# Altium integrated library TI_Logic_Little_Logic.IntLib: 1164 symbols (part 26 of 35)
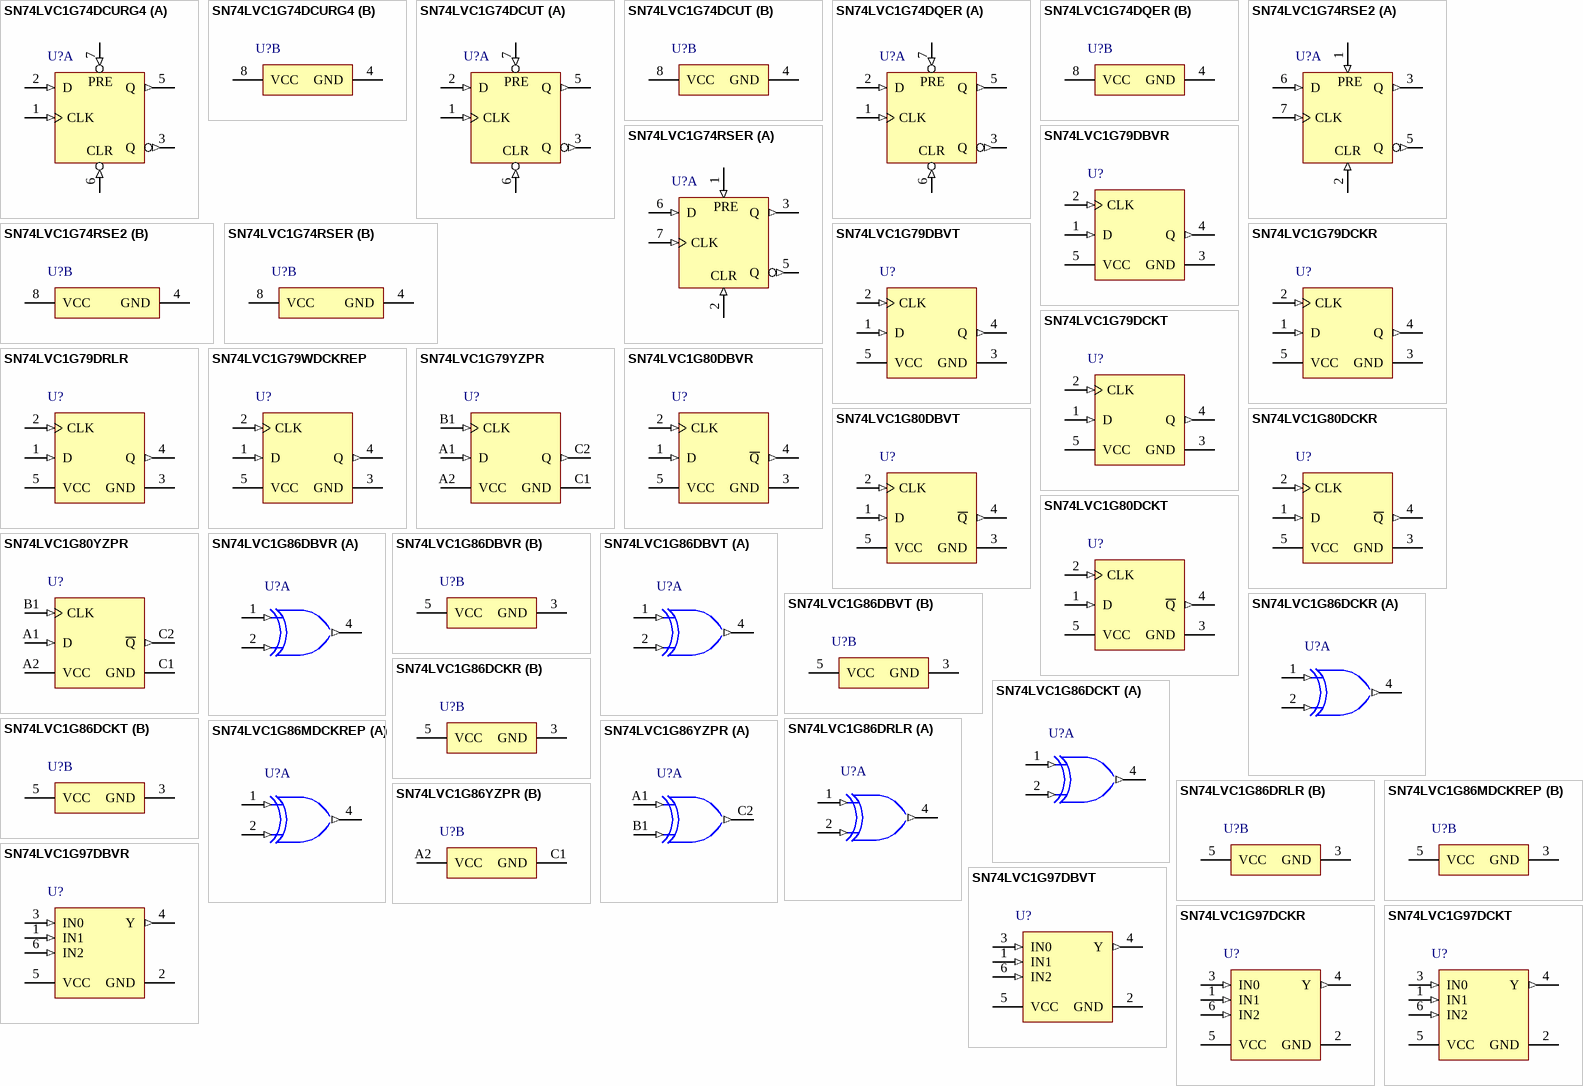
[diagram p85: symbols SN74LVC1G74DCURG4 to SN74LVC1G97DCKT]

## SN74LVC1G79WDCKREP
designator U?
Enhanced Product Single Positive-Edge-Triggered D-Type Flip-Flop, DCK0005A, LARGE T&R; Generic Part Number: SN74LVC1G79-EP; Manufacturer: Texas Instruments; PartNumber: SN74LVC1G79WDCKREP; VCC(Min)(V): 1.65; VCC(Max)(V): 5.5; Output Type: CMOS; ICC @ Nom Voltage(Max)(mA): 0.01; Input Type: CMOS/TTL; Bits(#): 1; F @ Nom Voltage(Max)(Mhz): 150; Rating: HiRel Enhanced Product; Technology Family: LVC; Voltage(Nom)(V): 1.8,2.5,3.3,5; Schmitt Trigger: No; Output Drive (IOL/IOH)(Max)(mA): 32/-32; tpd @ Nom Voltage(Max)(ns): 10.1,7,5,4.5; Logic: True; DatasheetVersion: SCES646A; PackageReference: DCK0005A; Supplier 1: Mouser; Supplier Part Number 1: 595-SN74LVC79WDCKREP; Supplier 2: Digi-Key; Supplier Part Number 2: 296-19506-2-ND; Supplier 3: Digi-Key; Supplier Part Number 3: 296-19506-1-ND; Supplier 4: Digi-Key; Supplier Part Number 4: 296-19506-6-ND; Operating Temperature Range(C): -55 to 115; 3-State Output: No; Sub-Family: D-Type Flip-Flop; ComponentLink1Description: Manufacturer URL; ComponentLink1URL: http://www.ti.com/; ComponentLink2Description: Datasheet; ComponentLink2URL: http://www.ti.com/lit/ds/symlink/sn74lvc1g79-ep.pdf
footprint DCK0005A_N (SOT23, 5-Leads, Body 2.15x1.4mm, Pitch 0.65mm, IPC Medium Density)
footprint DCK0005A_M (SOT23, 5-Leads, Body 2.15x1.4mm, Pitch 0.65mm, IPC Low Density)
footprint DCK0005A_L (SOT23, 5-Leads, Body 2.15x1.4mm, Pitch 0.65mm, IPC High Density)
pins: 1 D (in) "Data Input", 2 CLK (in) "Clock Input", 3 GND (power) "Ground", 4 Q (out) "Q Output", 5 VCC (power) "Power"

## SN74LVC1G79YZPR
designator U?
Single Positive-Edge-Triggered D-Type Flip-Flop, YZP0005AEAE, LARGE T&R; Generic Part Number: SN74LVC1G79; Manufacturer: Texas Instruments; PartNumber: SN74LVC1G79YZPR; VCC(Min)(V): 1.65; VCC(Max)(V): 5.5; Output Type: CMOS; ICC @ Nom Voltage(Max)(mA): 0.01; Input Type: CMOS/TTL; Bits(#): 1; F @ Nom Voltage(Max)(Mhz): 150; Rating: Catalog; Technology Family: LVC; Voltage(Nom)(V): 1.8,2.5,3.3,5; Schmitt Trigger: No; Output Drive (IOL/IOH)(Max)(mA): 32/-32; tpd @ Nom Voltage(Max)(ns): 12,8.5,6,5; Logic: True; DatasheetVersion: SCES220T; PackageReference: YZP0005AEAE; Supplier 1: Mouser; Supplier Part Number 1: 595-SN74LVC1G79YZPR; Supplier 2: Digi-Key; Supplier Part Number 2: 296-18788-2-ND; Supplier 3: Digi-Key; Supplier Part Number 3: 296-18788-1-ND; Supplier 4: Digi-Key; Supplier Part Number 4: 296-18788-6-ND; Operating Temperature Range(C): -40 to 125,-40 to 85; 3-State Output: No; Sub-Family: D-Type Flip-Flop; ComponentLink1Description: Manufacturer URL; ComponentLink1URL: http://www.ti.com/; ComponentLink2Description: Datasheet; ComponentLink2URL: http://www.ti.com/lit/ds/symlink/sn74lvc1g79.pdf
footprint YZP0005AEAE (BGA, 5-Balls, Body 1.39x0.89mm, Pitch 0.5mm)
pins: A1 D (in) "Data Input", A2 VCC (power) "Power", B1 CLK (in) "Clock Input", C1 GND (power) "Ground", C2 Q (out) "Q Output"

## SN74LVC1G80DBVR
designator U?
Single Positive-Edge-Triggered D-Type Flip-Flop, DBV0005A, LARGE T&R; Generic Part Number: SN74LVC1G80; Manufacturer: Texas Instruments; PartNumber: SN74LVC1G80DBVR; VCC(Min)(V): 1.65; VCC(Max)(V): 5.5; Output Type: CMOS; ICC @ Nom Voltage(Max)(mA): 0.01; Input Type: CMOS/TTL; Bits(#): 1; F @ Nom Voltage(Max)(Mhz): 150; Rating: Catalog; Technology Family: LVC; Voltage(Nom)(V): 1.8,2.5,3.3,5; Schmitt Trigger: No; Output Drive (IOL/IOH)(Max)(mA): 32/-32; tpd @ Nom Voltage(Max)(ns): 9.1,6,4.2,3.8; Logic: True; DatasheetVersion: SCES221R; PackageReference: DBV0005A; Supplier 1: Mouser; Supplier Part Number 1: 595-SN74LVC1G80DBVR; Supplier 2: Digi-Key; Supplier Part Number 2: 296-9851-2-ND; Supplier 3: Digi-Key; Supplier Part Number 3: 296-9851-1-ND; Supplier 4: Digi-Key; Supplier Part Number 4: 296-9851-6-ND; Operating Temperature Range(C): -40 to 125,-40 to 85; 3-State Output: No; Sub-Family: D-Type Flip-Flop; ComponentLink1Description: Manufacturer URL; ComponentLink1URL: http://www.ti.com/; ComponentLink2Description: Datasheet; ComponentLink2URL: http://www.ti.com/lit/ds/symlink/sn74lvc1g80.pdf
footprint DBV0005A_N (SOT23, 5-Leads, Body 3.05x1.75mm, Pitch 0.95mm, IPC Medium Density)
footprint DBV0005A_M (SOT23, 5-Leads, Body 3.05x1.75mm, Pitch 0.95mm, IPC Low Density)
footprint DBV0005A_L (SOT23, 5-Leads, Body 3.05x1.75mm, Pitch 0.95mm, IPC High Density)
pins: 1 D (in), 2 CLK (in), 3 GND (power), 4 ~{Q} (out), 5 VCC (power)

## SN74LVC1G80DBVT
designator U?
Single Positive-Edge-Triggered D-Type Flip-Flop, DBV0005A, SMALL T&R; Generic Part Number: SN74LVC1G80; Manufacturer: Texas Instruments; PartNumber: SN74LVC1G80DBVT; VCC(Min)(V): 1.65; VCC(Max)(V): 5.5; Output Type: CMOS; ICC @ Nom Voltage(Max)(mA): 0.01; Input Type: CMOS/TTL; Bits(#): 1; F @ Nom Voltage(Max)(Mhz): 150; Rating: Catalog; Technology Family: LVC; Voltage(Nom)(V): 1.8,2.5,3.3,5; Schmitt Trigger: No; Output Drive (IOL/IOH)(Max)(mA): 32/-32; tpd @ Nom Voltage(Max)(ns): 9.1,6,4.2,3.8; Logic: True; DatasheetVersion: SCES221R; PackageReference: DBV0005A; Supplier 1: Mouser; Supplier Part Number 1: 595-SN74LVC1G80DBVT; Supplier 2: Digi-Key; Supplier Part Number 2: 296-32308-2-ND; Supplier 3: Digi-Key; Supplier Part Number 3: 296-32308-1-ND; Supplier 4: Digi-Key; Supplier Part Number 4: 296-32308-6-ND; Operating Temperature Range(C): -40 to 125,-40 to 85; 3-State Output: No; Sub-Family: D-Type Flip-Flop; ComponentLink1Description: Manufacturer URL; ComponentLink1URL: http://www.ti.com/; ComponentLink2Description: Datasheet; ComponentLink2URL: http://www.ti.com/lit/ds/symlink/sn74lvc1g80.pdf
footprint DBV0005A_N (SOT23, 5-Leads, Body 3.05x1.75mm, Pitch 0.95mm, IPC Medium Density)
footprint DBV0005A_M (SOT23, 5-Leads, Body 3.05x1.75mm, Pitch 0.95mm, IPC Low Density)
footprint DBV0005A_L (SOT23, 5-Leads, Body 3.05x1.75mm, Pitch 0.95mm, IPC High Density)
pins: 1 D (in), 2 CLK (in), 3 GND (power), 4 ~{Q} (out), 5 VCC (power)

## SN74LVC1G80DCKR
designator U?
Single Positive-Edge-Triggered D-Type Flip-Flop, DCK0005A, LARGE T&R; Generic Part Number: SN74LVC1G80; Manufacturer: Texas Instruments; PartNumber: SN74LVC1G80DCKR; VCC(Min)(V): 1.65; VCC(Max)(V): 5.5; Output Type: CMOS; ICC @ Nom Voltage(Max)(mA): 0.01; Input Type: CMOS/TTL; Bits(#): 1; F @ Nom Voltage(Max)(Mhz): 150; Rating: Catalog; Technology Family: LVC; Voltage(Nom)(V): 1.8,2.5,3.3,5; Schmitt Trigger: No; Output Drive (IOL/IOH)(Max)(mA): 32/-32; tpd @ Nom Voltage(Max)(ns): 9.1,6,4.2,3.8; Logic: True; DatasheetVersion: SCES221R; PackageReference: DCK0005A; Supplier 1: Mouser; Supplier Part Number 1: 595-SN74LVC1G80DCKR; Supplier 2: Digi-Key; Supplier Part Number 2: 296-9852-2-ND; Supplier 3: Digi-Key; Supplier Part Number 3: 296-9852-1-ND; Supplier 4: Digi-Key; Supplier Part Number 4: 296-9852-6-ND; Operating Temperature Range(C): -40 to 125,-40 to 85; 3-State Output: No; Sub-Family: D-Type Flip-Flop; ComponentLink1Description: Manufacturer URL; ComponentLink1URL: http://www.ti.com/; ComponentLink2Description: Datasheet; ComponentLink2URL: http://www.ti.com/lit/ds/symlink/sn74lvc1g80.pdf
footprint DCK0005A_N (SOT23, 5-Leads, Body 2.15x1.4mm, Pitch 0.65mm, IPC Medium Density)
footprint DCK0005A_M (SOT23, 5-Leads, Body 2.15x1.4mm, Pitch 0.65mm, IPC Low Density)
footprint DCK0005A_L (SOT23, 5-Leads, Body 2.15x1.4mm, Pitch 0.65mm, IPC High Density)
pins: 1 D (in), 2 CLK (in), 3 GND (power), 4 ~{Q} (out), 5 VCC (power)

## SN74LVC1G80DCKT
designator U?
Single Positive-Edge-Triggered D-Type Flip-Flop, DCK0005A, SMALL T&R; Generic Part Number: SN74LVC1G80; Manufacturer: Texas Instruments; PartNumber: SN74LVC1G80DCKT; VCC(Min)(V): 1.65; VCC(Max)(V): 5.5; Output Type: CMOS; ICC @ Nom Voltage(Max)(mA): 0.01; Input Type: CMOS/TTL; Bits(#): 1; F @ Nom Voltage(Max)(Mhz): 150; Rating: Catalog; Technology Family: LVC; Voltage(Nom)(V): 1.8,2.5,3.3,5; Schmitt Trigger: No; Output Drive (IOL/IOH)(Max)(mA): 32/-32; tpd @ Nom Voltage(Max)(ns): 9.1,6,4.2,3.8; Logic: True; DatasheetVersion: SCES221R; PackageReference: DCK0005A; Supplier 1: Mouser; Supplier Part Number 1: 595-SN74LVC1G80DCKT; Supplier 2: Digi-Key; Supplier Part Number 2: 296-41824-2-ND; Supplier 3: Digi-Key; Supplier Part Number 3: 296-41824-1-ND; Supplier 4: Digi-Key; Supplier Part Number 4: 296-41824-6-ND; Operating Temperature Range(C): -40 to 125,-40 to 85; 3-State Output: No; Sub-Family: D-Type Flip-Flop; ComponentLink1Description: Manufacturer URL; ComponentLink1URL: http://www.ti.com/; ComponentLink2Description: Datasheet; ComponentLink2URL: http://www.ti.com/lit/ds/symlink/sn74lvc1g80.pdf
footprint DCK0005A_N (SOT23, 5-Leads, Body 2.15x1.4mm, Pitch 0.65mm, IPC Medium Density)
footprint DCK0005A_M (SOT23, 5-Leads, Body 2.15x1.4mm, Pitch 0.65mm, IPC Low Density)
footprint DCK0005A_L (SOT23, 5-Leads, Body 2.15x1.4mm, Pitch 0.65mm, IPC High Density)
pins: 1 D (in), 2 CLK (in), 3 GND (power), 4 ~{Q} (out), 5 VCC (power)

## SN74LVC1G80YZPR
designator U?
Single Positive-Edge-Triggered D-Type Flip-Flop, YZP0005ADAD, LARGE T&R; Generic Part Number: SN74LVC1G80; Manufacturer: Texas Instruments; PartNumber: SN74LVC1G80YZPR; VCC(Min)(V): 1.65; VCC(Max)(V): 5.5; Output Type: CMOS; ICC @ Nom Voltage(Max)(mA): 0.01; Input Type: CMOS/TTL; Bits(#): 1; F @ Nom Voltage(Max)(Mhz): 150; Rating: Catalog; Technology Family: LVC; Voltage(Nom)(V): 1.8,2.5,3.3,5; Schmitt Trigger: No; Output Drive (IOL/IOH)(Max)(mA): 32/-32; tpd @ Nom Voltage(Max)(ns): 9.1,6,4.2,3.8; Logic: True; DatasheetVersion: SCES221R; PackageReference: YZP0005ADAD; Supplier 1: Mouser; Supplier Part Number 1: 595-SN74LVC1G80YZPR; Supplier 2: Digi-Key; Supplier Part Number 2: 296-18790-2-ND; Supplier 3: Digi-Key; Supplier Part Number 3: 296-18790-1-ND; Supplier 4: Digi-Key; Supplier Part Number 4: 296-18790-6-ND; Operating Temperature Range(C): -40 to 125,-40 to 85; 3-State Output: No; Sub-Family: D-Type Flip-Flop; ComponentLink1Description: Manufacturer URL; ComponentLink1URL: http://www.ti.com/; ComponentLink2Description: Datasheet; ComponentLink2URL: http://www.ti.com/lit/ds/symlink/sn74lvc1g80.pdf
footprint YZP0005ADAD (BGA, 5-Balls, Body 1.39x0.89mm, Pitch 0.5mm)
pins: A1 D (in), A2 VCC (power), B1 CLK (in), C1 GND (power), C2 ~{Q} (out)

## SN74LVC1G86DBVR
designator U?
Single 2-Input Exclusive-OR Gate, DBV0005A, LARGE T&R; Generic Part Number: SN74LVC1G86; Manufacturer: Texas Instruments; PartNumber: SN74LVC1G86DBVR; VCC(Min)(V): 1.65; VCC(Max)(V): 5.5; Output Type: CMOS; ICC @ Nom Voltage(Max)(mA): 0.01; Input Type: CMOS/TTL; Bits(#): 1; F @ Nom Voltage(Max)(Mhz): 150; Rating: Catalog; Technology Family: LVC; Voltage(Nom)(V): 1.8,2.5,3.3,5; Schmitt Trigger: No; Output Drive (IOL/IOH)(Max)(mA): 32/-32; tpd @ Nom Voltage(Max)(ns): 9.9,5.5,5,4; Logic: True; Gate Type: XOR; Sub-Family: XOR Gate; DatasheetVersion: SCES222O; PackageReference: DBV0005A; Supplier 1: Mouser; Supplier Part Number 1: 595-SN74LVC1G86DBVR; Supplier 2: Digi-Key; Supplier Part Number 2: 296-9853-2-ND; Supplier 3: Digi-Key; Supplier Part Number 3: 296-9853-1-ND; Supplier 4: Digi-Key; Supplier Part Number 4: 296-9853-6-ND; Operating Temperature Range(C): -40 to 125,-40 to 85; 3-State Output: No; ComponentLink1Description: Manufacturer URL; ComponentLink1URL: http://www.ti.com/; ComponentLink2Description: Datasheet; ComponentLink2URL: http://www.ti.com/lit/ds/symlink/sn74lvc1g86.pdf
footprint DBV0005A_N (SOT23, 5-Leads, Body 3.05x1.75mm, Pitch 0.95mm, IPC Medium Density)
footprint DBV0005A_M (SOT23, 5-Leads, Body 3.05x1.75mm, Pitch 0.95mm, IPC Low Density)
footprint DBV0005A_L (SOT23, 5-Leads, Body 3.05x1.75mm, Pitch 0.95mm, IPC High Density)
part A pins: 1 A (in) "Input A", 2 B (in) "Input B", 4 Y (out) "Output Y"
part B pins: 3 GND (power) "Ground Pin", 5 VCC (power) "Power Pin"

## SN74LVC1G86DBVT
designator U?
Single 2-Input Exclusive-OR Gate, DBV0005A, SMALL T&R; Generic Part Number: SN74LVC1G86; Manufacturer: Texas Instruments; PartNumber: SN74LVC1G86DBVT; VCC(Min)(V): 1.65; VCC(Max)(V): 5.5; Output Type: CMOS; ICC @ Nom Voltage(Max)(mA): 0.01; Input Type: CMOS/TTL; Bits(#): 1; F @ Nom Voltage(Max)(Mhz): 150; Rating: Catalog; Technology Family: LVC; Voltage(Nom)(V): 1.8,2.5,3.3,5; Schmitt Trigger: No; Output Drive (IOL/IOH)(Max)(mA): 32/-32; tpd @ Nom Voltage(Max)(ns): 9.9,5.5,5,4; Logic: True; Gate Type: XOR; Sub-Family: XOR Gate; DatasheetVersion: SCES222O; PackageReference: DBV0005A; Supplier 1: Mouser; Supplier Part Number 1: 595-SN74LVC1G86DBVT; Supplier 2: Digi-Key; Supplier Part Number 2: 296-32309-2-ND; Supplier 3: Digi-Key; Supplier Part Number 3: 296-32309-1-ND; Supplier 4: Digi-Key; Supplier Part Number 4: 296-32309-6-ND; Operating Temperature Range(C): -40 to 125,-40 to 85; 3-State Output: No; ComponentLink1Description: Manufacturer URL; ComponentLink1URL: http://www.ti.com/; ComponentLink2Description: Datasheet; ComponentLink2URL: http://www.ti.com/lit/ds/symlink/sn74lvc1g86.pdf
footprint DBV0005A_N (SOT23, 5-Leads, Body 3.05x1.75mm, Pitch 0.95mm, IPC Medium Density)
footprint DBV0005A_M (SOT23, 5-Leads, Body 3.05x1.75mm, Pitch 0.95mm, IPC Low Density)
footprint DBV0005A_L (SOT23, 5-Leads, Body 3.05x1.75mm, Pitch 0.95mm, IPC High Density)
part A pins: 1 A (in) "Input A", 2 B (in) "Input B", 4 Y (out) "Output Y"
part B pins: 3 GND (power) "Ground Pin", 5 VCC (power) "Power Pin"

## SN74LVC1G86DCKR
designator U?
Single 2-Input Exclusive-OR Gate, DCK0005A, LARGE T&R; Generic Part Number: SN74LVC1G86; Manufacturer: Texas Instruments; PartNumber: SN74LVC1G86DCKR; VCC(Min)(V): 1.65; VCC(Max)(V): 5.5; Output Type: CMOS; ICC @ Nom Voltage(Max)(mA): 0.01; Input Type: CMOS/TTL; Bits(#): 1; F @ Nom Voltage(Max)(Mhz): 150; Rating: Catalog; Technology Family: LVC; Voltage(Nom)(V): 1.8,2.5,3.3,5; Schmitt Trigger: No; Output Drive (IOL/IOH)(Max)(mA): 32/-32; tpd @ Nom Voltage(Max)(ns): 9.9,5.5,5,4; Logic: True; Gate Type: XOR; Sub-Family: XOR Gate; DatasheetVersion: SCES222O; PackageReference: DCK0005A; Supplier 1: Mouser; Supplier Part Number 1: 595-SN74LVC1G86DCKR; Supplier 2: Digi-Key; Supplier Part Number 2: 296-9854-2-ND; Supplier 3: Digi-Key; Supplier Part Number 3: 296-9854-1-ND; Supplier 4: Digi-Key; Supplier Part Number 4: 296-9854-6-ND; Operating Temperature Range(C): -40 to 125,-40 to 85; 3-State Output: No; ComponentLink1Description: Manufacturer URL; ComponentLink1URL: http://www.ti.com/; ComponentLink2Description: Datasheet; ComponentLink2URL: http://www.ti.com/lit/ds/symlink/sn74lvc1g86.pdf
footprint DCK0005A_N (SOT23, 5-Leads, Body 2.15x1.4mm, Pitch 0.65mm, IPC Medium Density)
footprint DCK0005A_M (SOT23, 5-Leads, Body 2.15x1.4mm, Pitch 0.65mm, IPC Low Density)
footprint DCK0005A_L (SOT23, 5-Leads, Body 2.15x1.4mm, Pitch 0.65mm, IPC High Density)
part A pins: 1 A (in) "Input A", 2 B (in) "Input B", 4 Y (out) "Output Y"
part B pins: 3 GND (power) "Ground Pin", 5 VCC (power) "Power Pin"

## SN74LVC1G86DCKT
designator U?
Single 2-Input Exclusive-OR Gate, DCK0005A, SMALL T&R; Generic Part Number: SN74LVC1G86; Manufacturer: Texas Instruments; PartNumber: SN74LVC1G86DCKT; VCC(Min)(V): 1.65; VCC(Max)(V): 5.5; Output Type: CMOS; ICC @ Nom Voltage(Max)(mA): 0.01; Input Type: CMOS/TTL; Bits(#): 1; F @ Nom Voltage(Max)(Mhz): 150; Rating: Catalog; Technology Family: LVC; Voltage(Nom)(V): 1.8,2.5,3.3,5; Schmitt Trigger: No; Output Drive (IOL/IOH)(Max)(mA): 32/-32; tpd @ Nom Voltage(Max)(ns): 9.9,5.5,5,4; Logic: True; Gate Type: XOR; Sub-Family: XOR Gate; DatasheetVersion: SCES222O; PackageReference: DCK0005A; Supplier 1: Mouser; Supplier Part Number 1: 595-SN74LVC1G86DCKT; Supplier 2: Digi-Key; Supplier Part Number 2: 296-32310-2-ND; Supplier 3: Digi-Key; Supplier Part Number 3: 296-32310-1-ND; Supplier 4: Digi-Key; Supplier Part Number 4: 296-32310-6-ND; Operating Temperature Range(C): -40 to 125,-40 to 85; 3-State Output: No; ComponentLink1Description: Manufacturer URL; ComponentLink1URL: http://www.ti.com/; ComponentLink2Description: Datasheet; ComponentLink2URL: http://www.ti.com/lit/ds/symlink/sn74lvc1g86.pdf
footprint DCK0005A_N (SOT23, 5-Leads, Body 2.15x1.4mm, Pitch 0.65mm, IPC Medium Density)
footprint DCK0005A_M (SOT23, 5-Leads, Body 2.15x1.4mm, Pitch 0.65mm, IPC Low Density)
footprint DCK0005A_L (SOT23, 5-Leads, Body 2.15x1.4mm, Pitch 0.65mm, IPC High Density)
part A pins: 1 A (in) "Input A", 2 B (in) "Input B", 4 Y (out) "Output Y"
part B pins: 3 GND (power) "Ground Pin", 5 VCC (power) "Power Pin"

## SN74LVC1G86DRLR
designator U?
Single 2-Input Exclusive-OR Gate, DRL0005A, LARGE T&R; Generic Part Number: SN74LVC1G86; Manufacturer: Texas Instruments; PartNumber: SN74LVC1G86DRLR; VCC(Min)(V): 1.65; VCC(Max)(V): 5.5; Output Type: CMOS; ICC @ Nom Voltage(Max)(mA): 0.01; Input Type: CMOS/TTL; Bits(#): 1; F @ Nom Voltage(Max)(Mhz): 150; Rating: Catalog; Technology Family: LVC; Voltage(Nom)(V): 1.8,2.5,3.3,5; Schmitt Trigger: No; Output Drive (IOL/IOH)(Max)(mA): 32/-32; tpd @ Nom Voltage(Max)(ns): 9.9,5.5,5,4; Logic: True; Gate Type: XOR; Sub-Family: XOR Gate; DatasheetVersion: SCES222O; PackageReference: DRL0005A; Supplier 1: Mouser; Supplier Part Number 1: 595-SN74LVC1G86DRLR; Supplier 2: Digi-Key; Supplier Part Number 2: 296-18613-2-ND; Supplier 3: Digi-Key; Supplier Part Number 3: 296-18613-1-ND; Supplier 4: Digi-Key; Supplier Part Number 4: 296-18613-6-ND; Operating Temperature Range(C): -40 to 125,-40 to 85; 3-State Output: No; ComponentLink1Description: Manufacturer URL; ComponentLink1URL: http://www.ti.com/; ComponentLink2Description: Datasheet; ComponentLink2URL: http://www.ti.com/lit/ds/symlink/sn74lvc1g86.pdf
footprint DRL0005A_N (SOT23, 5-Leads, Body 1.7x1.3mm, Pitch 0.5mm, IPC Medium Density)
footprint DRL0005A_M (SOT23, 5-Leads, Body 1.7x1.3mm, Pitch 0.5mm, IPC Low Density)
footprint DRL0005A_L (SOT23, 5-Leads, Body 1.7x1.3mm, Pitch 0.5mm, IPC High Density)
part A pins: 1 A (in) "Input A", 2 B (in) "Input B", 4 Y (out) "Output Y"
part B pins: 3 GND (power) "Ground Pin", 5 VCC (power) "Power Pin"

## SN74LVC1G86MDCKREP
designator U?
Enhanced Product Single 2-Input Exclusive-Or Gate, DCK0005A, LARGE T&R; Generic Part Number: SN74LVC1G86-EP; Manufacturer: Texas Instruments; PartNumber: SN74LVC1G86MDCKREP; VCC(Min)(V): 1.65; VCC(Max)(V): 5.5; Output Type: CMOS; ICC @ Nom Voltage(Max)(mA): 0.015; Input Type: CMOS/TTL; Bits(#): 1; F @ Nom Voltage(Max)(Mhz): 150; Rating: HiRel Enhanced Product; Technology Family: LVC; Voltage(Nom)(V): 1.8,2.5,3.3,5; Schmitt Trigger: No; Output Drive (IOL/IOH)(Max)(mA): 32/-32; tpd @ Nom Voltage(Max)(ns): 6.7,5.7; Logic: True; Gate Type: XOR; Sub-Family: XOR Gate; DatasheetVersion: SCES679; PackageReference: DCK0005A; Supplier 1: Mouser; Supplier Part Number 1: 595-SN74LVC86MDCKREP; Supplier 2: Digi-Key; Supplier Part Number 2: 296-22351-2-ND; Supplier 3: Digi-Key; Supplier Part Number 3: 296-22351-1-ND; Supplier 4: Digi-Key; Supplier Part Number 4: 296-22351-6-ND; Operating Temperature Range(C): -55 to 125; 3-State Output: No; ComponentLink1Description: Manufacturer URL; ComponentLink1URL: http://www.ti.com/; ComponentLink2Description: Datasheet; ComponentLink2URL: http://www.ti.com/lit/ds/symlink/sn74lvc1g86-ep.pdf
footprint DCK0005A_N (SOT23, 5-Leads, Body 2.15x1.4mm, Pitch 0.65mm, IPC Medium Density)
footprint DCK0005A_M (SOT23, 5-Leads, Body 2.15x1.4mm, Pitch 0.65mm, IPC Low Density)
footprint DCK0005A_L (SOT23, 5-Leads, Body 2.15x1.4mm, Pitch 0.65mm, IPC High Density)
part A pins: 1 A (in) "Input A", 2 B (in) "Input B", 4 Y (out) "Output Y"
part B pins: 3 GND (power) "Ground Pin", 5 VCC (power) "Power Pin"

## SN74LVC1G86YZPR
designator U?
Single 2-Input Exclusive-OR Gate, YZP0005AEAE, LARGE T&R; Generic Part Number: SN74LVC1G86; Manufacturer: Texas Instruments; PartNumber: SN74LVC1G86YZPR; VCC(Min)(V): 1.65; VCC(Max)(V): 5.5; Output Type: CMOS; ICC @ Nom Voltage(Max)(mA): 0.01; Input Type: CMOS/TTL; Bits(#): 1; F @ Nom Voltage(Max)(Mhz): 150; Rating: Catalog; Technology Family: LVC; Voltage(Nom)(V): 1.8,2.5,3.3,5; Schmitt Trigger: No; Output Drive (IOL/IOH)(Max)(mA): 32/-32; tpd @ Nom Voltage(Max)(ns): 9.9,5.5,5,4; Logic: True; Gate Type: XOR; Sub-Family: XOR Gate; DatasheetVersion: SCES222O; PackageReference: YZP0005AEAE; Supplier 1: Mouser; Supplier Part Number 1: 595-SN74LVC1G86YZPR; Supplier 2: Digi-Key; Supplier Part Number 2: 296-18792-2-ND; Supplier 3: Digi-Key; Supplier Part Number 3: 296-18792-1-ND; Supplier 4: Digi-Key; Supplier Part Number 4: 296-18792-6-ND; Operating Temperature Range(C): -40 to 125,-40 to 85; 3-State Output: No; ComponentLink1Description: Manufacturer URL; ComponentLink1URL: http://www.ti.com/; ComponentLink2Description: Datasheet; ComponentLink2URL: http://www.ti.com/lit/ds/symlink/sn74lvc1g86.pdf
footprint YZP0005AEAE (BGA, 5-Balls, Body 1.39x0.89mm, Pitch 0.5mm)
part A pins: A1 A (in), B1 B (in), C2 Y (out)
part B pins: A2 VCC (power), C1 GND (power)

## SN74LVC1G97DBVR
designator U?
Configurable Multiple-Function Gate, DBV0006A, LARGE T&R; Generic Part Number: SN74LVC1G97; Manufacturer: Texas Instruments; PartNumber: SN74LVC1G97DBVR; VCC(Min)(V): 1.65; VCC(Max)(V): 5.5; Output Type: CMOS; ICC @ Nom Voltage(Max)(mA): 0.01; Input Type: CMOS/TTL; Bits(#): 1; F @ Nom Voltage(Max)(Mhz): 150; Rating: Catalog; Technology Family: LVC; Voltage(Nom)(V): 1.8,2.5,3.3,5; Schmitt Trigger: No; Output Drive (IOL/IOH)(Max)(mA): 32/-32; tpd @ Nom Voltage(Max)(ns): 14.4,8.3,6.3,5.1; Logic: True; Sub-Family: Configurable Logic; DatasheetVersion: SCES416L; PackageReference: DBV0006A; Supplier 1: Mouser; Supplier Part Number 1: 595-SN74LVC1G97DBVR; Supplier 2: Digi-Key; Supplier Part Number 2: 296-15581-2-ND; Supplier 3: Digi-Key; Supplier Part Number 3: 296-15581-1-ND; Supplier 4: Digi-Key; Supplier Part Number 4: 296-15581-6-ND; Operating Temperature Range(C): -40 to 125,-40 to 85; Gate Type: Configurable; 3-State Output: No; ComponentLink1Description: Manufacturer URL; ComponentLink1URL: http://www.ti.com/; ComponentLink2Description: Datasheet; ComponentLink2URL: http://www.ti.com/lit/ds/symlink/sn74lvc1g97.pdf
footprint DBV0006A_N (SOT23, 6-Leads, Body 3.05x1.75mm, Pitch 0.95mm, IPC Medium Density)
footprint DBV0006A_M (SOT23, 6-Leads, Body 3.05x1.75mm, Pitch 0.95mm, IPC Low Density)
footprint DBV0006A_L (SOT23, 6-Leads, Body 3.05x1.75mm, Pitch 0.95mm, IPC High Density)
pins: 1 IN1 (in), 2 GND (power), 3 IN0 (in), 4 Y (out), 5 VCC (power), 6 IN2 (in)

## SN74LVC1G97DBVT
designator U?
Configurable Multiple-Function Gate, DBV0006A, SMALL T&R; Generic Part Number: SN74LVC1G97; Manufacturer: Texas Instruments; PartNumber: SN74LVC1G97DBVT; VCC(Min)(V): 1.65; VCC(Max)(V): 5.5; Output Type: CMOS; ICC @ Nom Voltage(Max)(mA): 0.01; Input Type: CMOS/TTL; Bits(#): 1; F @ Nom Voltage(Max)(Mhz): 150; Rating: Catalog; Technology Family: LVC; Voltage(Nom)(V): 1.8,2.5,3.3,5; Schmitt Trigger: No; Output Drive (IOL/IOH)(Max)(mA): 32/-32; tpd @ Nom Voltage(Max)(ns): 14.4,8.3,6.3,5.1; Logic: True; Sub-Family: Configurable Logic; DatasheetVersion: SCES416L; PackageReference: DBV0006A; Supplier 1: Mouser; Supplier Part Number 1: 595-SN74LVC1G97DBVT; Supplier 2: Digi-Key; Supplier Part Number 2: 296-41825-2-ND; Supplier 3: Digi-Key; Supplier Part Number 3: 296-41825-1-ND; Supplier 4: Digi-Key; Supplier Part Number 4: 296-41825-6-ND; Operating Temperature Range(C): -40 to 125,-40 to 85; Gate Type: Configurable; 3-State Output: No; ComponentLink1Description: Manufacturer URL; ComponentLink1URL: http://www.ti.com/; ComponentLink2Description: Datasheet; ComponentLink2URL: http://www.ti.com/lit/ds/symlink/sn74lvc1g97.pdf
footprint DBV0006A_N (SOT23, 6-Leads, Body 3.05x1.75mm, Pitch 0.95mm, IPC Medium Density)
footprint DBV0006A_M (SOT23, 6-Leads, Body 3.05x1.75mm, Pitch 0.95mm, IPC Low Density)
footprint DBV0006A_L (SOT23, 6-Leads, Body 3.05x1.75mm, Pitch 0.95mm, IPC High Density)
pins: 1 IN1 (in), 2 GND (power), 3 IN0 (in), 4 Y (out), 5 VCC (power), 6 IN2 (in)

## SN74LVC1G97DCKR
designator U?
Configurable Multiple-Function Gate, DCK0006A; Generic Part Number: SN74LVC1G97; Manufacturer: Texas Instruments; PartNumber: SN74LVC1G97DCKR; VCC(Min)(V): 1.65; VCC(Max)(V): 5.5; Output Type: CMOS; ICC @ Nom Voltage(Max)(mA): 0.01; Input Type: CMOS/TTL; Bits(#): 1; F @ Nom Voltage(Max)(Mhz): 150; Rating: Catalog; Technology Family: LVC; Voltage(Nom)(V): 1.8,2.5,3.3,5; Schmitt Trigger: No; Output Drive (IOL/IOH)(Max)(mA): 32/-32; tpd @ Nom Voltage(Max)(ns): 14.4,8.3,6.3,5.1; Logic: True; Sub-Family: Configurable Logic; DatasheetVersion: SCES416L; PackageReference: DCK0006A; Supplier 1: Mouser; Supplier Part Number 1: 595-SN74LVC1G97DCKR; Supplier 2: Digi-Key; Supplier Part Number 2: 296-15582-2-ND; Supplier 3: Digi-Key; Supplier Part Number 3: 296-15582-1-ND; Supplier 4: Digi-Key; Supplier Part Number 4: 296-15582-6-ND; Operating Temperature Range(C): -40 to 125,-40 to 85; Gate Type: Configurable; 3-State Output: No; ComponentLink1Description: Manufacturer URL; ComponentLink1URL: http://www.ti.com/; ComponentLink2Description: Datasheet; ComponentLink2URL: http://www.ti.com/lit/ds/symlink/sn74lvc1g97.pdf
footprint DCK0006A_N (SOT23, 6-Leads, Body 2.15x1.4mm, Pitch 0.65mm, IPC Medium Density)
footprint DCK0006A_M (SOT23, 6-Leads, Body 2.15x1.4mm, Pitch 0.65mm, IPC Low Density)
footprint DCK0006A_L (SOT23, 6-Leads, Body 2.15x1.4mm, Pitch 0.65mm, IPC High Density)
pins: 1 IN1 (in), 2 GND (power), 3 IN0 (in), 4 Y (out), 5 VCC (power), 6 IN2 (in)

## SN74LVC1G97DCKT
designator U?
Configurable Multiple-Function Gate, DCK0006A, SMALL T&R; Generic Part Number: SN74LVC1G97; Manufacturer: Texas Instruments; PartNumber: SN74LVC1G97DCKT; VCC(Min)(V): 1.65; VCC(Max)(V): 5.5; Output Type: CMOS; ICC @ Nom Voltage(Max)(mA): 0.01; Input Type: CMOS/TTL; Bits(#): 1; F @ Nom Voltage(Max)(Mhz): 150; Rating: Catalog; Technology Family: LVC; Voltage(Nom)(V): 1.8,2.5,3.3,5; Schmitt Trigger: No; Output Drive (IOL/IOH)(Max)(mA): 32/-32; tpd @ Nom Voltage(Max)(ns): 14.4,8.3,6.3,5.1; Logic: True; Sub-Family: Configurable Logic; DatasheetVersion: SCES416L; PackageReference: DCK0006A; Supplier 1: Mouser; Supplier Part Number 1: 595-SN74LVC1G97DCKT; Supplier 2: Digi-Key; Supplier Part Number 2: 296-32311-2-ND; Supplier 3: Digi-Key; Supplier Part Number 3: 296-32311-1-ND; Supplier 4: Digi-Key; Supplier Part Number 4: 296-32311-6-ND; Operating Temperature Range(C): -40 to 125,-40 to 85; Gate Type: Configurable; 3-State Output: No; ComponentLink1Description: Manufacturer URL; ComponentLink1URL: http://www.ti.com/; ComponentLink2Description: Datasheet; ComponentLink2URL: http://www.ti.com/lit/ds/symlink/sn74lvc1g97.pdf
footprint DCK0006A_N (SOT23, 6-Leads, Body 2.15x1.4mm, Pitch 0.65mm, IPC Medium Density)
footprint DCK0006A_M (SOT23, 6-Leads, Body 2.15x1.4mm, Pitch 0.65mm, IPC Low Density)
footprint DCK0006A_L (SOT23, 6-Leads, Body 2.15x1.4mm, Pitch 0.65mm, IPC High Density)
pins: 1 IN1 (in), 2 GND (power), 3 IN0 (in), 4 Y (out), 5 VCC (power), 6 IN2 (in)

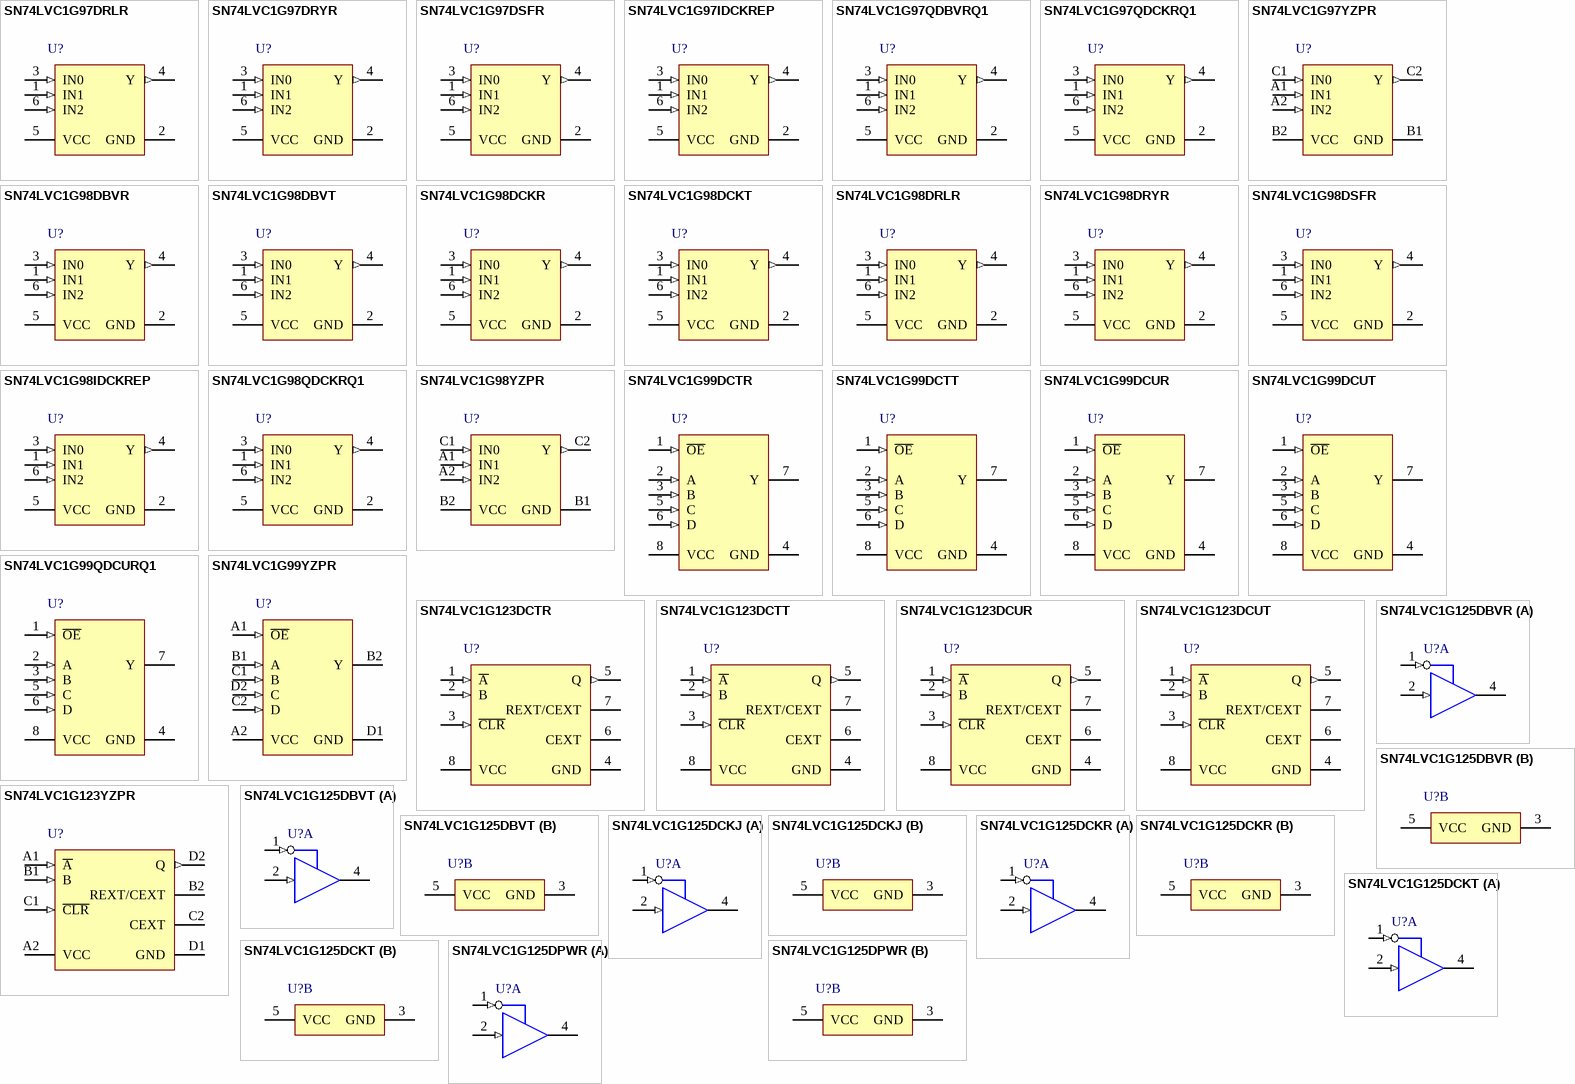
[diagram p43: symbols SN74LVC1G97DRLR to SN74LVC1G125DPWR]

## SN74LVC1G97DRLR
designator U?
Configurable Multiple-Function Gate, DRL0006A, LARGE T&R; Generic Part Number: SN74LVC1G97; Manufacturer: Texas Instruments; PartNumber: SN74LVC1G97DRLR; VCC(Min)(V): 1.65; VCC(Max)(V): 5.5; Output Type: CMOS; ICC @ Nom Voltage(Max)(mA): 0.01; Input Type: CMOS/TTL; Bits(#): 1; F @ Nom Voltage(Max)(Mhz): 150; Rating: Catalog; Technology Family: LVC; Voltage(Nom)(V): 1.8,2.5,3.3,5; Schmitt Trigger: No; Output Drive (IOL/IOH)(Max)(mA): 32/-32; tpd @ Nom Voltage(Max)(ns): 14.4,8.3,6.3,5.1; Logic: True; Sub-Family: Configurable Logic; DatasheetVersion: SCES416L; PackageReference: DRL0006A; Supplier 1: Mouser; Supplier Part Number 1: 595-SN74LVC1G97DRLR; Supplier 2: Digi-Key; Supplier Part Number 2: 296-18655-2-ND; Supplier 3: Digi-Key; Supplier Part Number 3: 296-18655-1-ND; Supplier 4: Digi-Key; Supplier Part Number 4: 296-18655-6-ND; Operating Temperature Range(C): -40 to 125,-40 to 85; Gate Type: Configurable; 3-State Output: No; ComponentLink1Description: Manufacturer URL; ComponentLink1URL: http://www.ti.com/; ComponentLink2Description: Datasheet; ComponentLink2URL: http://www.ti.com/lit/ds/symlink/sn74lvc1g97.pdf
footprint DRL0006A_N (SOT23, 6-Leads, Body 1.7x1.3mm, Pitch 0.5mm, IPC Medium Density)
footprint DRL0006A_M (SOT23, 6-Leads, Body 1.7x1.3mm, Pitch 0.5mm, IPC Low Density)
footprint DRL0006A_L (SOT23, 6-Leads, Body 1.7x1.3mm, Pitch 0.5mm, IPC High Density)
pins: 1 IN1 (in), 2 GND (power), 3 IN0 (in), 4 Y (out), 5 VCC (power), 6 IN2 (in)

## SN74LVC1G97DRYR
designator U?
Configurable Multiple-Function Gate, DRY0006A, LARGE T&R; Generic Part Number: SN74LVC1G97; Manufacturer: Texas Instruments; PartNumber: SN74LVC1G97DRYR; VCC(Min)(V): 1.65; VCC(Max)(V): 5.5; Output Type: CMOS; ICC @ Nom Voltage(Max)(mA): 0.01; Input Type: CMOS/TTL; Bits(#): 1; F @ Nom Voltage(Max)(Mhz): 150; Rating: Catalog; Technology Family: LVC; Voltage(Nom)(V): 1.8,2.5,3.3,5; Schmitt Trigger: No; Output Drive (IOL/IOH)(Max)(mA): 32/-32; tpd @ Nom Voltage(Max)(ns): 14.4,8.3,6.3,5.1; Logic: True; Sub-Family: Configurable Logic; DatasheetVersion: SCES416L; PackageReference: DRY0006A; Supplier 1: Mouser; Supplier Part Number 1: 595-SN74LVC1G97DRYR; Supplier 2: Digi-Key; Supplier Part Number 2: 296-29874-2-ND; Supplier 3: Digi-Key; Supplier Part Number 3: 296-29874-1-ND; Supplier 4: Digi-Key; Supplier Part Number 4: 296-29874-6-ND; Operating Temperature Range(C): -40 to 125,-40 to 85; Gate Type: Configurable; 3-State Output: No; ComponentLink1Description: Manufacturer URL; ComponentLink1URL: http://www.ti.com/; ComponentLink2Description: Datasheet; ComponentLink2URL: http://www.ti.com/lit/ds/symlink/sn74lvc1g97.pdf
footprint DRY0006A_V (SON, 6-Leads, Body 1.45x1mm, Pitch 0.5mm)
pins: 1 IN1 (in), 2 GND (power), 3 IN0 (in), 4 Y (out), 5 VCC (power), 6 IN2 (in)

## SN74LVC1G97DSFR
designator U?
Configurable Multiple-Function Gate, DSF0006A, LARGE T&R; Generic Part Number: SN74LVC1G97; Manufacturer: Texas Instruments; PartNumber: SN74LVC1G97DSFR; VCC(Min)(V): 1.65; VCC(Max)(V): 5.5; Output Type: CMOS; ICC @ Nom Voltage(Max)(mA): 0.01; Input Type: CMOS/TTL; Bits(#): 1; F @ Nom Voltage(Max)(Mhz): 150; Rating: Catalog; Technology Family: LVC; Voltage(Nom)(V): 1.8,2.5,3.3,5; Schmitt Trigger: No; Output Drive (IOL/IOH)(Max)(mA): 32/-32; tpd @ Nom Voltage(Max)(ns): 14.4,8.3,6.3,5.1; Logic: True; Sub-Family: Configurable Logic; DatasheetVersion: SCES416L; PackageReference: DSF0006A; Supplier 1: Mouser; Supplier Part Number 1: 595-SN74LVC1G97DSFR; Supplier 2: Digi-Key; Supplier Part Number 2: 296-29875-2-ND; Supplier 3: Digi-Key; Supplier Part Number 3: 296-29875-1-ND; Supplier 4: Digi-Key; Supplier Part Number 4: 296-29875-6-ND; Operating Temperature Range(C): -40 to 125,-40 to 85; Gate Type: Configurable; 3-State Output: No; ComponentLink1Description: Manufacturer URL; ComponentLink1URL: http://www.ti.com/; ComponentLink2Description: Datasheet; ComponentLink2URL: http://www.ti.com/lit/ds/symlink/sn74lvc1g97.pdf
footprint DSF0006A_V (SON, 6-Leads, Body 1x1mm, Pitch 0.35mm, TI Recommend)
pins: 1 IN1 (in), 2 GND (power), 3 IN0 (in), 4 Y (out), 5 VCC (power), 6 IN2 (in)

## SN74LVC1G97IDCKREP
designator U?
Enhanced Product Configurable Multiple-Function Gate, DCK0006A, LARGE T&R; Generic Part Number: SN74LVC1G97-EP; Manufacturer: Texas Instruments; PartNumber: SN74LVC1G97IDCKREP; VCC(Min)(V): 1.65; VCC(Max)(V): 5.5; Output Type: CMOS; ICC @ Nom Voltage(Max)(mA): 0.01; Input Type: CMOS/TTL; Bits(#): 1; F @ Nom Voltage(Max)(Mhz): 150; Rating: HiRel Enhanced Product; Technology Family: LVC; Voltage(Nom)(V): 1.8,2.5,3.3,5; Schmitt Trigger: No; Output Drive (IOL/IOH)(Max)(mA): 32/-32; tpd @ Nom Voltage(Max)(ns): 14.4,8.3,6.3,5.1; Logic: True; Sub-Family: Configurable Logic; DatasheetVersion: SCES461B; PackageReference: DCK0006A; Supplier 1: Mouser; Supplier Part Number 1: 595-SN74LVC97IDCKREP; Supplier 2: Digi-Key; Supplier Part Number 2: 296-22352-2-ND; Supplier 3: Digi-Key; Supplier Part Number 3: 296-22352-1-ND; Supplier 4: Digi-Key; Supplier Part Number 4: 296-22352-6-ND; Operating Temperature Range(C): -40 to 85; Gate Type: Configurable; 3-State Output: No; ComponentLink1Description: Manufacturer URL; ComponentLink1URL: http://www.ti.com/; ComponentLink2Description: Datasheet; ComponentLink2URL: http://www.ti.com/lit/ds/symlink/sn74lvc1g97-ep.pdf
footprint DCK0006A_N (SOT23, 6-Leads, Body 2.15x1.4mm, Pitch 0.65mm, IPC Medium Density)
footprint DCK0006A_M (SOT23, 6-Leads, Body 2.15x1.4mm, Pitch 0.65mm, IPC Low Density)
footprint DCK0006A_L (SOT23, 6-Leads, Body 2.15x1.4mm, Pitch 0.65mm, IPC High Density)
pins: 1 IN1 (in), 2 GND (power), 3 IN0 (in), 4 Y (out), 5 VCC (power), 6 IN2 (in)

## SN74LVC1G97QDBVRQ1
designator U?
Automotive Catalog Configurable Multiple-Function Gate, DBV0006A, LARGE T&R; Generic Part Number: SN74LVC1G97-Q1; Manufacturer: Texas Instruments; PartNumber: SN74LVC1G97QDBVRQ1; VCC(Min)(V): 1.65; VCC(Max)(V): 5.5; Output Type: CMOS; ICC @ Nom Voltage(Max)(mA): 0.01; Input Type: CMOS/TTL; Bits(#): 1; F @ Nom Voltage(Max)(Mhz): 150; Technology Family: LVC; Voltage(Nom)(V): 1.8,2.5,3.3,5; Schmitt Trigger: No; Output Drive (IOL/IOH)(Max)(mA): 32/-32; tpd @ Nom Voltage(Max)(ns): 16.4,9.3,7.3,6.1; Logic: True; Sub-Family: Configurable Logic; DatasheetVersion: SCES561D; PackageReference: DBV0006A; Supplier 1: Mouser; Supplier Part Number 1: 595-SN74LVC1G97QDBQ1; Supplier 2: Digi-Key; Supplier Part Number 2: 296-32312-2-ND; Supplier 3: Digi-Key; Supplier Part Number 3: 296-32312-1-ND; Supplier 4: Digi-Key; Supplier Part Number 4: 296-32312-6-ND; Operating Temperature Range(C): -40 to 125; Rating: Automotive; Gate Type: Configurable; 3-State Output: No; ComponentLink1Description: Manufacturer URL; ComponentLink1URL: http://www.ti.com/; ComponentLink2Description: Datasheet; ComponentLink2URL: http://www.ti.com/lit/ds/symlink/sn74lvc1g97-q1.pdf
footprint DBV0006A_N (SOT23, 6-Leads, Body 3.05x1.75mm, Pitch 0.95mm, IPC Medium Density)
footprint DBV0006A_M (SOT23, 6-Leads, Body 3.05x1.75mm, Pitch 0.95mm, IPC Low Density)
footprint DBV0006A_L (SOT23, 6-Leads, Body 3.05x1.75mm, Pitch 0.95mm, IPC High Density)
pins: 1 IN1 (in), 2 GND (power), 3 IN0 (in), 4 Y (out), 5 VCC (power), 6 IN2 (in)

## SN74LVC1G97QDCKRQ1
designator U?
Automotive Catalog Configurable Multiple-Function Gate, DCK0006A, LARGE T&R; Generic Part Number: SN74LVC1G97-Q1; Manufacturer: Texas Instruments; PartNumber: SN74LVC1G97QDCKRQ1; VCC(Min)(V): 1.65; VCC(Max)(V): 5.5; Output Type: CMOS; ICC @ Nom Voltage(Max)(mA): 0.01; Input Type: CMOS/TTL; Bits(#): 1; F @ Nom Voltage(Max)(Mhz): 150; Technology Family: LVC; Voltage(Nom)(V): 1.8,2.5,3.3,5; Schmitt Trigger: No; Output Drive (IOL/IOH)(Max)(mA): 32/-32; tpd @ Nom Voltage(Max)(ns): 16.4,9.3,7.3,6.1; Logic: True; Sub-Family: Configurable Logic; DatasheetVersion: SCES561D; PackageReference: DCK0006A; Supplier 1: Mouser; Supplier Part Number 1: 595-SN74LVC1G97QDCQ1; Supplier 2: Digi-Key; Supplier Part Number 2: 296-17671-2-ND; Supplier 3: Digi-Key; Supplier Part Number 3: 296-17671-1-ND; Supplier 4: Digi-Key; Supplier Part Number 4: 296-17671-6-ND; Operating Temperature Range(C): -40 to 125; Rating: Automotive; Gate Type: Configurable; 3-State Output: No; ComponentLink1Description: Manufacturer URL; ComponentLink1URL: http://www.ti.com/; ComponentLink2Description: Datasheet; ComponentLink2URL: http://www.ti.com/lit/ds/symlink/sn74lvc1g97-q1.pdf
footprint DCK0006A_N (SOT23, 6-Leads, Body 2.15x1.4mm, Pitch 0.65mm, IPC Medium Density)
footprint DCK0006A_M (SOT23, 6-Leads, Body 2.15x1.4mm, Pitch 0.65mm, IPC Low Density)
footprint DCK0006A_L (SOT23, 6-Leads, Body 2.15x1.4mm, Pitch 0.65mm, IPC High Density)
pins: 1 IN1 (in), 2 GND (power), 3 IN0 (in), 4 Y (out), 5 VCC (power), 6 IN2 (in)

## SN74LVC1G97YZPR
designator U?
Configurable Multiple-Function Gate, YZP0006ADAD, LARGE T&R; Generic Part Number: SN74LVC1G97; Manufacturer: Texas Instruments; PartNumber: SN74LVC1G97YZPR; VCC(Min)(V): 1.65; VCC(Max)(V): 5.5; Output Type: CMOS; ICC @ Nom Voltage(Max)(mA): 0.01; Input Type: CMOS/TTL; Bits(#): 1; F @ Nom Voltage(Max)(Mhz): 150; Rating: Catalog; Technology Family: LVC; Voltage(Nom)(V): 1.8,2.5,3.3,5; Schmitt Trigger: No; Output Drive (IOL/IOH)(Max)(mA): 32/-32; tpd @ Nom Voltage(Max)(ns): 14.4,8.3,6.3,5.1; Logic: True; Sub-Family: Configurable Logic; DatasheetVersion: SCES416L; PackageReference: YZP0006ADAD; Supplier 1: Mouser; Supplier Part Number 1: 595-SN74LVC1G97YZPR; Supplier 2: Digi-Key; Supplier Part Number 2: 296-16852-2-ND; Supplier 3: Digi-Key; Supplier Part Number 3: 296-16852-1-ND; Supplier 4: Digi-Key; Supplier Part Number 4: 296-16852-6-ND; Operating Temperature Range(C): -40 to 125,-40 to 85; Gate Type: Configurable; 3-State Output: No; ComponentLink1Description: Manufacturer URL; ComponentLink1URL: http://www.ti.com/; ComponentLink2Description: Datasheet; ComponentLink2URL: http://www.ti.com/lit/ds/symlink/sn74lvc1g97.pdf
footprint YZP0006ADAD (BGA, 6-Balls, Body 1.39x0.89mm, Pitch 0.5mm)
pins: A1 IN1 (in), A2 IN2 (in), B1 GND (power), B2 VCC (power), C1 IN0 (in), C2 Y (out)

## SN74LVC1G98DBVR
designator U?
Configurable Multiple-Function Gate, DBV0006A, LARGE T&R; Generic Part Number: SN74LVC1G98; Manufacturer: Texas Instruments; PartNumber: SN74LVC1G98DBVR; VCC(Min)(V): 1.65; VCC(Max)(V): 5.5; Output Type: CMOS; ICC @ Nom Voltage(Max)(mA): 0.01; Input Type: CMOS/TTL; Bits(#): 1; F @ Nom Voltage(Max)(Mhz): 150; Rating: Catalog; Technology Family: LVC; Voltage(Nom)(V): 1.8,2.5,3.3,5; Schmitt Trigger: No; Output Drive (IOL/IOH)(Max)(mA): 32/-32; tpd @ Nom Voltage(Max)(ns): 16.4,9.3,7.3,6.1; Logic: True; Sub-Family: Configurable Logic; DatasheetVersion: SCES417L; PackageReference: DBV0006A; Supplier 1: Mouser; Supplier Part Number 1: 595-SN74LVC1G98DBVR; Supplier 2: Digi-Key; Supplier Part Number 2: 296-15583-2-ND; Supplier 3: Digi-Key; Supplier Part Number 3: 296-15583-1-ND; Supplier 4: Digi-Key; Supplier Part Number 4: 296-15583-6-ND; Operating Temperature Range(C): -40 to 125; Gate Type: Configurable; 3-State Output: No; ComponentLink1Description: Manufacturer URL; ComponentLink1URL: http://www.ti.com/; ComponentLink2Description: Datasheet; ComponentLink2URL: http://www.ti.com/lit/ds/symlink/sn74lvc1g98.pdf
footprint DBV0006A_N (SOT23, 6-Leads, Body 3.05x1.75mm, Pitch 0.95mm, IPC Medium Density)
footprint DBV0006A_M (SOT23, 6-Leads, Body 3.05x1.75mm, Pitch 0.95mm, IPC Low Density)
footprint DBV0006A_L (SOT23, 6-Leads, Body 3.05x1.75mm, Pitch 0.95mm, IPC High Density)
pins: 1 IN1 (in), 2 GND (power), 3 IN0 (in), 4 Y (out), 5 VCC (power), 6 IN2 (in)

## SN74LVC1G98DBVT
designator U?
Configurable Multiple-Function Gate, DBV0006A, SMALL T&R; Generic Part Number: SN74LVC1G98; Manufacturer: Texas Instruments; PartNumber: SN74LVC1G98DBVT; VCC(Min)(V): 1.65; VCC(Max)(V): 5.5; Output Type: CMOS; ICC @ Nom Voltage(Max)(mA): 0.01; Input Type: CMOS/TTL; Bits(#): 1; F @ Nom Voltage(Max)(Mhz): 150; Rating: Catalog; Technology Family: LVC; Voltage(Nom)(V): 1.8,2.5,3.3,5; Schmitt Trigger: No; Output Drive (IOL/IOH)(Max)(mA): 32/-32; tpd @ Nom Voltage(Max)(ns): 16.4,9.3,7.3,6.1; Logic: True; Sub-Family: Configurable Logic; DatasheetVersion: SCES417L; PackageReference: DBV0006A; Supplier 1: Mouser; Supplier Part Number 1: 595-SN74LVC1G98DBVT; Supplier 2: Digi-Key; Supplier Part Number 2: SN74LVC1G98DBVT-ND; Operating Temperature Range(C): -40 to 125; Gate Type: Configurable; 3-State Output: No; ComponentLink1Description: Manufacturer URL; ComponentLink1URL: http://www.ti.com/; ComponentLink2Description: Datasheet; ComponentLink2URL: http://www.ti.com/lit/ds/symlink/sn74lvc1g98.pdf
footprint DBV0006A_N (SOT23, 6-Leads, Body 3.05x1.75mm, Pitch 0.95mm, IPC Medium Density)
footprint DBV0006A_M (SOT23, 6-Leads, Body 3.05x1.75mm, Pitch 0.95mm, IPC Low Density)
footprint DBV0006A_L (SOT23, 6-Leads, Body 3.05x1.75mm, Pitch 0.95mm, IPC High Density)
pins: 1 IN1 (in), 2 GND (power), 3 IN0 (in), 4 Y (out), 5 VCC (power), 6 IN2 (in)

## SN74LVC1G98DCKR
designator U?
Configurable Multiple-Function Gate, DCK0006A, LARGE T&R; Generic Part Number: SN74LVC1G98; Manufacturer: Texas Instruments; PartNumber: SN74LVC1G98DCKR; VCC(Min)(V): 1.65; VCC(Max)(V): 5.5; Output Type: CMOS; ICC @ Nom Voltage(Max)(mA): 0.01; Input Type: CMOS/TTL; Bits(#): 1; F @ Nom Voltage(Max)(Mhz): 150; Rating: Catalog; Technology Family: LVC; Voltage(Nom)(V): 1.8,2.5,3.3,5; Schmitt Trigger: No; Output Drive (IOL/IOH)(Max)(mA): 32/-32; tpd @ Nom Voltage(Max)(ns): 16.4,9.3,7.3,6.1; Logic: True; Sub-Family: Configurable Logic; DatasheetVersion: SCES417L; PackageReference: DCK0006A; Supplier 1: Mouser; Supplier Part Number 1: 595-SN74LVC1G98DCKR; Supplier 2: Digi-Key; Supplier Part Number 2: 296-15584-2-ND; Supplier 3: Digi-Key; Supplier Part Number 3: 296-15584-1-ND; Supplier 4: Digi-Key; Supplier Part Number 4: 296-15584-6-ND; Operating Temperature Range(C): -40 to 125; Gate Type: Configurable; 3-State Output: No; ComponentLink1Description: Manufacturer URL; ComponentLink1URL: http://www.ti.com/; ComponentLink2Description: Datasheet; ComponentLink2URL: http://www.ti.com/lit/ds/symlink/sn74lvc1g98.pdf
footprint DCK0006A_N (SOT23, 6-Leads, Body 2.15x1.4mm, Pitch 0.65mm, IPC Medium Density)
footprint DCK0006A_M (SOT23, 6-Leads, Body 2.15x1.4mm, Pitch 0.65mm, IPC Low Density)
footprint DCK0006A_L (SOT23, 6-Leads, Body 2.15x1.4mm, Pitch 0.65mm, IPC High Density)
pins: 1 IN1 (in), 2 GND (power), 3 IN0 (in), 4 Y (out), 5 VCC (power), 6 IN2 (in)

## SN74LVC1G98DCKT
designator U?
Configurable Multiple-Function Gate, DCK0006A, SMALL T&R; Generic Part Number: SN74LVC1G98; Manufacturer: Texas Instruments; PartNumber: SN74LVC1G98DCKT; VCC(Min)(V): 1.65; VCC(Max)(V): 5.5; Output Type: CMOS; ICC @ Nom Voltage(Max)(mA): 0.01; Input Type: CMOS/TTL; Bits(#): 1; F @ Nom Voltage(Max)(Mhz): 150; Rating: Catalog; Technology Family: LVC; Voltage(Nom)(V): 1.8,2.5,3.3,5; Schmitt Trigger: No; Output Drive (IOL/IOH)(Max)(mA): 32/-32; tpd @ Nom Voltage(Max)(ns): 16.4,9.3,7.3,6.1; Logic: True; Sub-Family: Configurable Logic; DatasheetVersion: SCES417L; PackageReference: DCK0006A; Supplier 1: Mouser; Supplier Part Number 1: 595-SN74LVC1G98DCKT; Supplier 2: Digi-Key; Supplier Part Number 2: SN74LVC1G98DCKT-ND; Operating Temperature Range(C): -40 to 125; Gate Type: Configurable; 3-State Output: No; ComponentLink1Description: Manufacturer URL; ComponentLink1URL: http://www.ti.com/; ComponentLink2Description: Datasheet; ComponentLink2URL: http://www.ti.com/lit/ds/symlink/sn74lvc1g98.pdf
footprint DCK0006A_N (SOT23, 6-Leads, Body 2.15x1.4mm, Pitch 0.65mm, IPC Medium Density)
footprint DCK0006A_M (SOT23, 6-Leads, Body 2.15x1.4mm, Pitch 0.65mm, IPC Low Density)
footprint DCK0006A_L (SOT23, 6-Leads, Body 2.15x1.4mm, Pitch 0.65mm, IPC High Density)
pins: 1 IN1 (in), 2 GND (power), 3 IN0 (in), 4 Y (out), 5 VCC (power), 6 IN2 (in)

## SN74LVC1G98DRLR
designator U?
Configurable Multiple-Function Gate, DRL0006A, LARGE T&R; Generic Part Number: SN74LVC1G98; Manufacturer: Texas Instruments; PartNumber: SN74LVC1G98DRLR; VCC(Min)(V): 1.65; VCC(Max)(V): 5.5; Output Type: CMOS; ICC @ Nom Voltage(Max)(mA): 0.01; Input Type: CMOS/TTL; Bits(#): 1; F @ Nom Voltage(Max)(Mhz): 150; Rating: Catalog; Technology Family: LVC; Voltage(Nom)(V): 1.8,2.5,3.3,5; Schmitt Trigger: No; Output Drive (IOL/IOH)(Max)(mA): 32/-32; tpd @ Nom Voltage(Max)(ns): 16.4,9.3,7.3,6.1; Logic: True; Sub-Family: Configurable Logic; DatasheetVersion: SCES417L; PackageReference: DRL0006A; Supplier 1: Mouser; Supplier Part Number 1: 595-SN74LVC1G98DRLR; Supplier 2: Digi-Key; Supplier Part Number 2: 296-18656-2-ND; Supplier 3: Digi-Key; Supplier Part Number 3: 296-18656-1-ND; Supplier 4: Digi-Key; Supplier Part Number 4: 296-18656-6-ND; Operating Temperature Range(C): -40 to 125; Gate Type: Configurable; 3-State Output: No; ComponentLink1Description: Manufacturer URL; ComponentLink1URL: http://www.ti.com/; ComponentLink2Description: Datasheet; ComponentLink2URL: http://www.ti.com/lit/ds/symlink/sn74lvc1g98.pdf
footprint DRL0006A_N (SOT23, 6-Leads, Body 1.7x1.3mm, Pitch 0.5mm, IPC Medium Density)
footprint DRL0006A_M (SOT23, 6-Leads, Body 1.7x1.3mm, Pitch 0.5mm, IPC Low Density)
footprint DRL0006A_L (SOT23, 6-Leads, Body 1.7x1.3mm, Pitch 0.5mm, IPC High Density)
pins: 1 IN1 (in), 2 GND (power), 3 IN0 (in), 4 Y (out), 5 VCC (power), 6 IN2 (in)

## SN74LVC1G98DRYR
designator U?
Configurable Multiple-Function Gate, DRY0006A, LARGE T&R; Generic Part Number: SN74LVC1G98; Manufacturer: Texas Instruments; PartNumber: SN74LVC1G98DRYR; VCC(Min)(V): 1.65; VCC(Max)(V): 5.5; Output Type: CMOS; ICC @ Nom Voltage(Max)(mA): 0.01; Input Type: CMOS/TTL; Bits(#): 1; F @ Nom Voltage(Max)(Mhz): 150; Rating: Catalog; Technology Family: LVC; Voltage(Nom)(V): 1.8,2.5,3.3,5; Schmitt Trigger: No; Output Drive (IOL/IOH)(Max)(mA): 32/-32; tpd @ Nom Voltage(Max)(ns): 16.4,9.3,7.3,6.1; Logic: True; Sub-Family: Configurable Logic; DatasheetVersion: SCES417L; PackageReference: DRY0006A; Supplier 1: Mouser; Supplier Part Number 1: 595-SN74LVC1G98DRYR; Supplier 2: Digi-Key; Supplier Part Number 2: 296-29876-2-ND; Supplier 3: Digi-Key; Supplier Part Number 3: 296-29876-1-ND; Supplier 4: Digi-Key; Supplier Part Number 4: 296-29876-6-ND; Operating Temperature Range(C): -40 to 125; Gate Type: Configurable; 3-State Output: No; ComponentLink1Description: Manufacturer URL; ComponentLink1URL: http://www.ti.com/; ComponentLink2Description: Datasheet; ComponentLink2URL: http://www.ti.com/lit/ds/symlink/sn74lvc1g98.pdf
footprint DRY0006A_V (SON, 6-Leads, Body 1.45x1mm, Pitch 0.5mm)
pins: 1 IN1 (in), 2 GND (power), 3 IN0 (in), 4 Y (out), 5 VCC (power), 6 IN2 (in)

## SN74LVC1G98DSFR
designator U?
Configurable Multiple-Function Gate, DSF0006A, LARGE T&R; Generic Part Number: SN74LVC1G98; Manufacturer: Texas Instruments; PartNumber: SN74LVC1G98DSFR; VCC(Min)(V): 1.65; VCC(Max)(V): 5.5; Output Type: CMOS; ICC @ Nom Voltage(Max)(mA): 0.01; Input Type: CMOS/TTL; Bits(#): 1; F @ Nom Voltage(Max)(Mhz): 150; Rating: Catalog; Technology Family: LVC; Voltage(Nom)(V): 1.8,2.5,3.3,5; Schmitt Trigger: No; Output Drive (IOL/IOH)(Max)(mA): 32/-32; tpd @ Nom Voltage(Max)(ns): 16.4,9.3,7.3,6.1; Logic: True; Sub-Family: Configurable Logic; DatasheetVersion: SCES417L; PackageReference: DSF0006A; Supplier 1: Mouser; Supplier Part Number 1: 595-SN74LVC1G98DSFR; Supplier 2: Digi-Key; Supplier Part Number 2: 296-29877-2-ND; Supplier 3: Digi-Key; Supplier Part Number 3: 296-29877-1-ND; Supplier 4: Digi-Key; Supplier Part Number 4: 296-29877-6-ND; Operating Temperature Range(C): -40 to 125; Gate Type: Configurable; 3-State Output: No; ComponentLink1Description: Manufacturer URL; ComponentLink1URL: http://www.ti.com/; ComponentLink2Description: Datasheet; ComponentLink2URL: http://www.ti.com/lit/ds/symlink/sn74lvc1g98.pdf
footprint DSF0006A_V (SON, 6-Leads, Body 1x1mm, Pitch 0.35mm, TI Recommend)
pins: 1 IN1 (in), 2 GND (power), 3 IN0 (in), 4 Y (out), 5 VCC (power), 6 IN2 (in)

## SN74LVC1G98IDCKREP
designator U?
Enhanced Product Configurable Multiple-Function Gate, DCK0006A, LARGE T&R; Generic Part Number: SN74LVC1G98-EP; Manufacturer: Texas Instruments; PartNumber: SN74LVC1G98IDCKREP; VCC(Min)(V): 1.65; VCC(Max)(V): 5.5; Output Type: CMOS; ICC @ Nom Voltage(Max)(mA): 0.01; Input Type: CMOS/TTL; Bits(#): 1; F @ Nom Voltage(Max)(Mhz): 150; Rating: HiRel Enhanced Product; Technology Family: LVC; Voltage(Nom)(V): 1.8,2.5,3.3,5; Schmitt Trigger: No; Output Drive (IOL/IOH)(Max)(mA): 32/-32; tpd @ Nom Voltage(Max)(ns): 14.4,8.3,6.3,5.1; Logic: True; Sub-Family: Configurable Logic; DatasheetVersion: SCES462C; PackageReference: DCK0006A; Supplier 1: Mouser; Supplier Part Number 1: 595-SN74LVC1G98IDCEP; Supplier 2: Digi-Key; Supplier Part Number 2: 296-22353-2-ND; Supplier 3: Digi-Key; Supplier Part Number 3: 296-22353-1-ND; Supplier 4: Digi-Key; Supplier Part Number 4: 296-22353-6-ND; Operating Temperature Range(C): -40 to 85; Gate Type: Configurable; 3-State Output: No; ComponentLink1Description: Manufacturer URL; ComponentLink1URL: http://www.ti.com/; ComponentLink2Description: Datasheet; ComponentLink2URL: http://www.ti.com/lit/ds/symlink/sn74lvc1g98-ep.pdf
footprint DCK0006A_N (SOT23, 6-Leads, Body 2.15x1.4mm, Pitch 0.65mm, IPC Medium Density)
footprint DCK0006A_M (SOT23, 6-Leads, Body 2.15x1.4mm, Pitch 0.65mm, IPC Low Density)
footprint DCK0006A_L (SOT23, 6-Leads, Body 2.15x1.4mm, Pitch 0.65mm, IPC High Density)
pins: 1 IN1 (in), 2 GND (power), 3 IN0 (in), 4 Y (out), 5 VCC (power), 6 IN2 (in)

## SN74LVC1G98QDCKRQ1
designator U?
Automotive Catalog Configurable Multiple-Function Gate, DCK0006A, LARGE T&R; Generic Part Number: SN74LVC1G98-Q1; Manufacturer: Texas Instruments; PartNumber: SN74LVC1G98QDCKRQ1; VCC(Min)(V): 1.65; VCC(Max)(V): 5.5; Output Type: CMOS; ICC @ Nom Voltage(Max)(mA): 0.01; Input Type: CMOS/TTL; Bits(#): 1; F @ Nom Voltage(Max)(Mhz): 150; Technology Family: LVC; Voltage(Nom)(V): 1.8,2.5,3.3,5; Schmitt Trigger: No; Output Drive (IOL/IOH)(Max)(mA): 32/-32; tpd @ Nom Voltage(Max)(ns): 16.4,9.3,7.3,6.1; Logic: True; Sub-Family: Configurable Logic; DatasheetVersion: SCES562C; PackageReference: DCK0006A; Supplier 1: Mouser; Supplier Part Number 1: 595-SN74LVC1G98QDCQ1; Supplier 2: Digi-Key; Supplier Part Number 2: 296-17672-2-ND; Supplier 3: Digi-Key; Supplier Part Number 3: 296-17672-1-ND; Supplier 4: Digi-Key; Supplier Part Number 4: 296-17672-6-ND; Operating Temperature Range(C): -40 to 125; Rating: Automotive; Gate Type: Configurable; 3-State Output: No; ComponentLink1Description: Manufacturer URL; ComponentLink1URL: http://www.ti.com/; ComponentLink2Description: Datasheet; ComponentLink2URL: http://www.ti.com/lit/ds/symlink/sn74lvc1g98-q1.pdf
footprint DCK0006A_N (SOT23, 6-Leads, Body 2.15x1.4mm, Pitch 0.65mm, IPC Medium Density)
footprint DCK0006A_M (SOT23, 6-Leads, Body 2.15x1.4mm, Pitch 0.65mm, IPC Low Density)
footprint DCK0006A_L (SOT23, 6-Leads, Body 2.15x1.4mm, Pitch 0.65mm, IPC High Density)
pins: 1 IN1 (in), 2 GND (power), 3 IN0 (in), 4 Y (out), 5 VCC (power), 6 IN2 (in)